# EAGLE library part DIL8_EXPANSION_SKT+PADS (library EW_00_Ken)
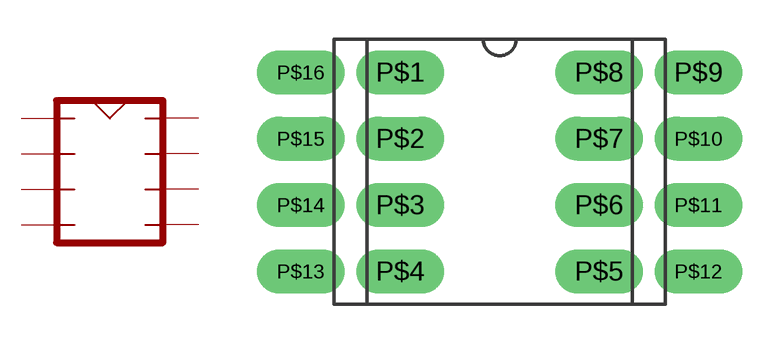
[diagram p15: symbol with the pads of DIL_EXPANSION_SKT+PADS; footprint DIL_EXPANSION_SKT+PADS]

Designator prefix -

## DIL8_EXPANSION_SKT+PADS  [DIL_EXPANSION_SKT+PADS]
P$1  P$1
P$2  P$2
P$3  P$3
P$4  P$4
P$5  P$5
P$6  P$6
P$7  P$7
P$8  P$8
P$9  P$9
P$10  P$10
P$11  P$11
P$12  P$12
P$13  P$13
P$14  P$14
P$15  P$15
P$16  P$16

## Footprint DIL_EXPANSION_SKT+PADS (pad centres in mm)
drill 0.8 pad 1.676 long: P$1 -3.81,3.81; P$2 -3.81,1.27; P$3 -3.81,-1.27; P$4 -3.81,-3.81; P$5 3.81,-3.81; P$6 3.81,-1.27; P$7 3.81,1.27; P$8 3.81,3.81; P$9 7.62,3.81; P$10 7.62,1.27; P$11 7.62,-1.27; P$12 7.62,-3.81; P$13 -7.62,-3.81; P$14 -7.62,-1.27; P$15 -7.62,1.27; P$16 -7.62,3.81